# EAGLE library part DS1339C (library kwoo)
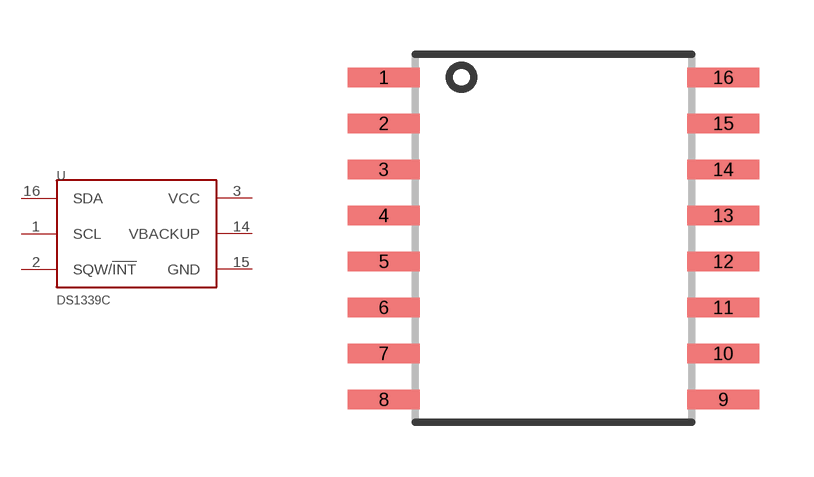
[diagram p42: symbol with the pads of 16-SOIC-MAXIM; footprint 16-SOIC-MAXIM]

Designator prefix U

## DS1339C  [16-SOIC-MAXIM]
1  SCL
2  SQW/!INT
3  VCC
14  VBACKUP
15  GND
16  SDA

## Footprint 16-SOIC-MAXIM (pad centres in mm)
16 SOIC From Maxim datasheet: http://pdfserv.maxim-ic.com/land_patterns/90-0107.PDF
smd 1.981 x 0.533: 1 -4.686,4.445; 2 -4.686,3.175; 3 -4.686,1.905; 4 -4.686,0.635; 5 -4.686,-0.635; 6 -4.686,-1.905; 7 -4.686,-3.175; 8 -4.686,-4.445; 9 4.686,-4.445; 10 4.686,-3.175; 11 4.686,-1.905; 12 4.686,-0.635; 13 4.686,0.635; 14 4.686,1.905; 15 4.686,3.175; 16 4.686,4.445